# EAGLE library part MCP23008T-E/SO (library h8-ic)
8BIT EXPANDER, I/O, I2C I/F
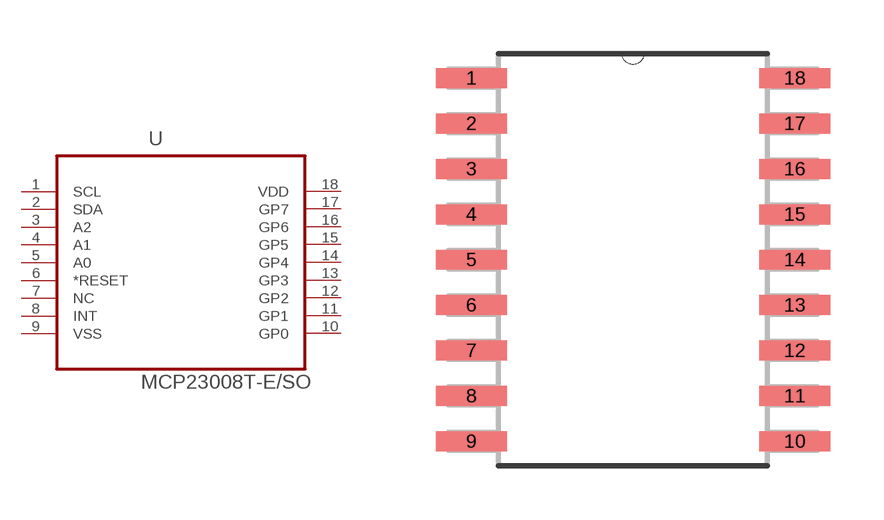
[diagram p6: symbol with the pads of SOIC127P1030X265-18N; footprint SOIC127P1030X265-18N]

Designator prefix U

## MCP23008T-E/SO (MF: Microchip; MFN: MCP23008T-E/SO; MOUSER: 579-MCP23008T-E/SO; RS-ONLINE: 403-642)  [SOIC127P1030X265-18N]
1  SCL  in
2  SDA  pas
3  A2  pas
4  A1  in
5  A0  in
6  *RESET  in
7  NC  in
8  INT  out
9  VSS  pas
10  GP0  pas
11  GP1  pas
12  GP2  pas
13  GP3  pas
14  GP4  pas
15  GP5  pas
16  GP6  pas
17  GP7  pas
18  VDD  pwr

## Footprint SOIC127P1030X265-18N (pad centres in mm)
smd 1.981 x 0.559: 1 -4.521,5.08; 2 -4.521,3.81; 3 -4.521,2.54; 4 -4.521,1.27; 5 -4.521,0; 6 -4.521,-1.27; 7 -4.521,-2.54; 8 -4.521,-3.81; 9 -4.521,-5.08; 10 4.521,-5.08; 11 4.521,-3.81; 12 4.521,-2.54; 13 4.521,-1.27; 14 4.521,0; 15 4.521,1.27; 16 4.521,2.54; 17 4.521,3.81; 18 4.521,5.08